# Altium footprint library PcbLib.PcbLib: 2 footprints
Each footprint in its own frame and in the unit in brackets; x right, y up, seen from the top. Pads: shape width x height; smd on the part's side, far side on the other; paste and mask are expansions set on the pad; w line width, h text height; cw(c..) or ccw(c..) is an arc to the next point about the centre after c.
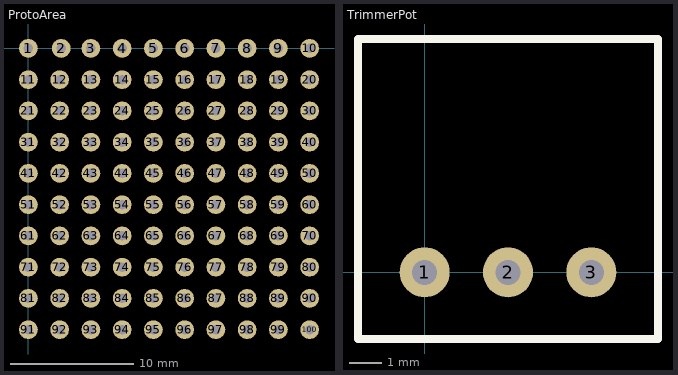
[diagram p0: the footprints below, top view; thin cyan lines are the x and y axes]

## ProtoArea [mil]
pads (100):
  round 60 hole 30: 1(0,0) 2(105,0) 3(200,0) 4(300,0) 5(400,0) 6(500,0) 7(600,0) 8(700,0) 9(800,0) 10(900,0) 11(0,-100) 12(100,-100) 13(200,-100) 14(300,-100) 15(400,-100) 16(500,-100) 17(600,-100) 18(700,-100) 19(800,-100) 20(900,-100) 21(0,-200) 22(100,-200) 23(200,-200) 24(300,-200) 25(400,-200) 26(500,-200) 27(600,-200) 28(700,-200) 29(800,-200) 30(900,-200) 31(0,-300) 32(100,-300) 33(200,-300) 34(300,-300) 35(400,-300) 36(500,-300) 37(600,-300) 38(700,-300) 39(800,-300) 40(900,-300) 41(0,-400) 42(100,-400) 43(200,-400) 44(300,-400) 45(400,-400) 46(500,-400) 47(600,-400) 48(700,-400) 49(800,-400) 50(900,-400) 51(0,-500) 52(100,-500) 53(200,-500) 54(300,-500) 55(400,-500) 56(500,-500) 57(600,-500) 58(700,-500) 59(800,-500) 60(900,-500) 61(0,-600) 62(100,-600) 63(200,-600) 64(300,-600) 65(400,-600) 66(500,-600) 67(600,-600) 68(700,-600) 69(800,-600) 70(900,-600) 71(0,-700) 72(100,-700) 73(200,-700) 74(300,-700) 75(400,-700) 76(500,-700) 77(600,-700) 78(700,-700) 79(800,-700) 80(900,-700) 81(0,-800) 82(100,-800) 83(200,-800) 84(300,-800) 85(400,-800) 86(500,-800) 87(600,-800) 88(700,-800) 89(800,-800) 90(900,-800) 91(0,-900) 92(100,-900) 93(200,-900) 94(300,-900) 95(400,-900) 96(500,-900) 97(600,-900) 98(700,-900) 99(800,-900) 100(900,-900)

## TrimmerPot [mil]
height 180
pads (3):
  round 60 hole 30: 1(0,0) 2(100,0) 3(200,0)
Top Overlay:
  lines w10: -80,-80 280,-80 280,280 -80,280 -80,-80